# EAGLE library part ADS7813U (library burr-brown)
16-Bit 40 kSPS ADC
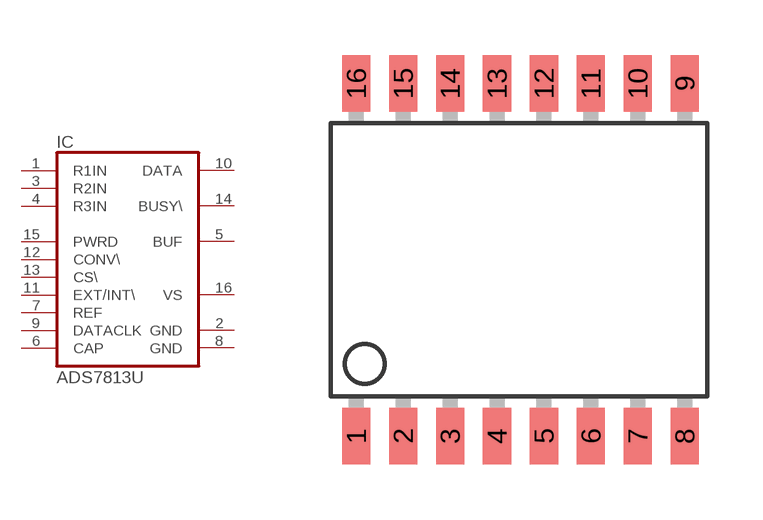
[diagram p52: symbol with the pads of SO16-1; footprint SO16-1]

Designator prefix IC

## ADS7813U  [SO16-1]
1  R1IN  in
2  GND  pwr
3  R2IN  in
4  R3IN  in
5  BUF  out
6  CAP  pas
7  REF
8  GND  pwr
9  DATACLK
10  DATA  out
11  EXT/INT\  in
12  CONV\  in
13  CS\  in
14  BUSY\  out
15  PWRD  in
16  VS  pwr

## Footprint SO16-1 (pad centres in mm)
smd 0.762 x 1.524: 1 -4.445,-4.775; 2 -3.175,-4.775; 3 -1.905,-4.775; 4 -0.635,-4.775; 5 0.635,-4.775; 6 1.905,-4.775; 7 3.175,-4.775; 8 4.445,-4.775; 9 4.445,4.775; 10 3.175,4.775; 11 1.905,4.775; 12 0.635,4.775; 13 -0.635,4.775; 14 -1.905,4.775; 15 -3.175,4.775; 16 -4.445,4.775